# Altium footprint library Res.PcbLib: 10 footprints
Each footprint in its own frame and in the unit in brackets; x right, y up, seen from the top. Pads: shape width x height; smd on the part's side, far side on the other; paste and mask are expansions set on the pad; w line width, h text height; cw(c..) or ccw(c..) is an arc to the next point about the centre after c.
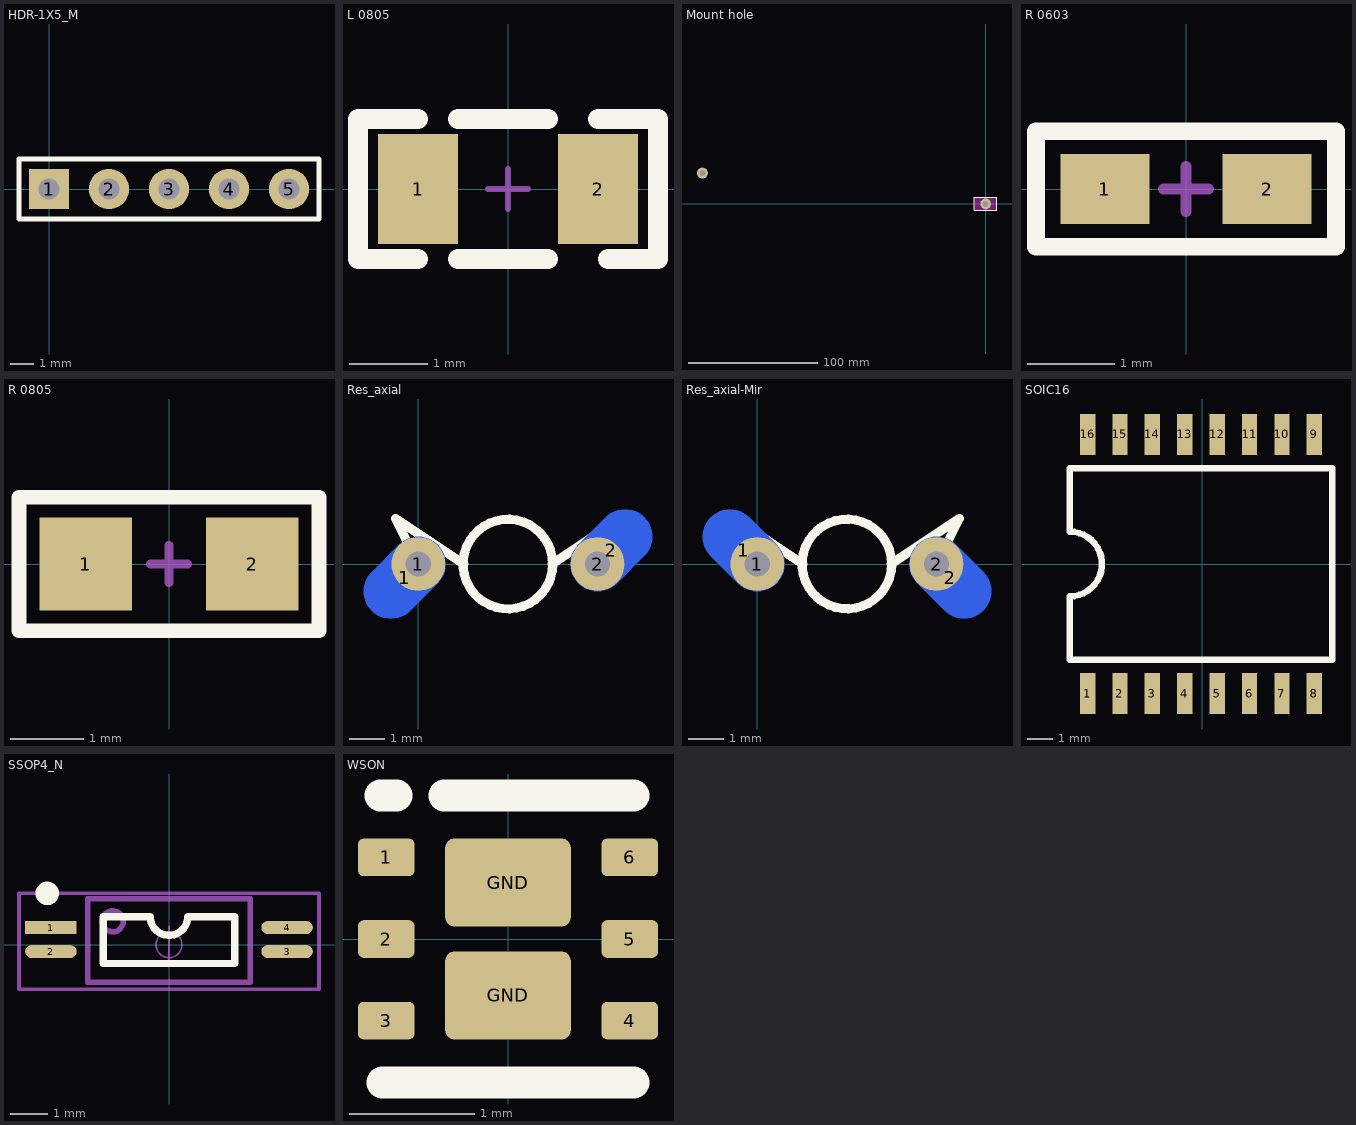
[diagram p0: the footprints below, top view; thin cyan lines are the x and y axes]

## HDR-1X5_M [mm] "排母，5脚"
pads (5):
  rect 1.7x1.7 hole 0.9: 1(0,0)
  round 1.7 hole 0.9: 2(2.54,0) 3(5.08,0) 4(7.62,0) 5(10.16,0)
Top Overlay:
  lines w0.2: -1.27,-1.27 -1.27,1.27 11.43,1.27 11.43,-1.27 -1.27,-1.27
3D body "HDR2.54-1P_M.STEP": height 8.5, standoff -3, extent 8.89,-1.27 11.43,1.27
3D body "HDR2.54-1P_M.STEP": height 8.5, standoff -3, extent 3.81,-1.27 6.35,1.27
3D body "HDR2.54-1P_M.STEP": height 8.5, standoff -3, extent 6.35,-1.27 8.89,1.27
3D body "HDR2.54-1P_M.STEP": height 8.5, standoff -3, extent -1.27,-1.27 1.27,1.27
3D body "HDR2.54-1P_M.STEP": height 8.5, standoff -3, extent 1.27,-1.27 3.81,1.27

## L 0805 [mil] "小功率贴片电感"
pads (2):
  rect 40x55 smd: 1(-45,0) 2(45,0)
Top Overlay:
  lines w10: -45,-35 -75,-35 -75,35 -45,35 ; -25,-35 20,-35 ; -25,35 20,35 ; 45,35 75,35 75,-35 50,-35
Mechanical 15:
  lines w3: -10,0 10,0 ; 0,-10 0,10
3D body "0805.STEP": height 35.43, standoff -0.11, extent -39.37,-23.62 39.37,23.62

## Mount hole [mm]
pads (2):
  round 8.4 hole 4.6: ""(-219.583,23.876) ""(0,0)
Top Overlay:
  lines w0.254: -8.75,-5 8.75,-5 8.75,5 -8.75,5 -8.75,-5
Keep-Out Layer:
  rectangle: -8.75,-5 8.75,5

## R 0603 [mil] "1/10W贴片电阻"
pads (2):
  rect 40x31.5 smd: 1(-36.5,0) 2(36.5,0)
Top Overlay:
  lines w8: -67.5,-26 -67.5,26 67.5,26 67.5,-26 -67.5,-26
Mechanical 15:
  lines w5: -10,0 10,0 ; 0,-10 0,10
3D body "R 0603.STEP": height 15.79, standoff -0.13, extent -31.49,-15.74 31.5,15.75

## R 0805 [mil] "1/8W贴片电阻"
pads (2):
  rect 50x50 smd: 1(-45,0) 2(45,0)
Top Overlay:
  lines w8: -81,-36 81,-36 81,36 -81,36 -81,-36
Mechanical 15:
  lines w5: -10,0 10,0 ; 0,-10 0,10
3D body "R 0805.STEP": height 19.72, standoff -0.24, extent -39.37,-24.6 39.37,24.61

## Res_axial [mm]
height 8
pads (4):
  oval 1.524x2.6 smd far side rot 135: 1(-0.381,-0.381) 2(5.385,0.384)
  round 1.5 hole 0.7: 1(0,0) 2(5,0)
Top Overlay:
  circle w0.254: c2.5,0 r1.25
  lines w0.254: 0,0 -0.635,1.27 1.27,0 ; 3.73,0 5.635,1.27 5,0

## Res_axial-Mir [mm]
height 8
pads (4):
  oval 1.524x2.6 smd far side rot 45: 1(-0.381,0.381) 2(5.385,-0.381)
  round 1.5 hole 0.7: 1(0,0) 2(5,0)
Top Overlay:
  circle w0.254: c2.5,0 r1.25
  lines w0.254: 0,0 -0.635,1.27 1.27,0 ; 3.73,0 5.635,1.27 5,0

## SOIC16 [mm]
pads (16):
  rect 0.6x1.6 smd: 1(-4.501,-5.08) 2(-3.231,-5.08) 3(-1.961,-5.08) 4(-0.691,-5.08) 5(0.579,-5.08) 6(1.849,-5.08) 7(3.119,-5.08) 8(4.389,-5.08) 9(4.389,5.08) 10(3.119,5.08) 11(1.849,5.08) 12(0.579,5.08) 13(-0.691,5.08) 14(-1.961,5.08) 15(-3.231,5.08) 16(-4.501,5.08)
Top Overlay:
  lines w0.254: -5.206,-3.75 5.094,-3.75 5.094,3.75 -5.206,3.75 -5.206,1.27 cw(c-5.207,0) -5.208,-1.27 -5.206,-3.75

## SSOP4_N [mm] "3*6.4*1.2mm（长宽高）"
pads (4):
  rect 1.4x0.35 smd: 1(-3.2,0.467)
  oval 1.4x0.35 smd: 2(-3.2,-0.183) 3(3.2,-0.183) 4(3.2,0.467)
Top Overlay:
  circle w0.381: c-3.3,1.392 r0.127
  lines w0.2: -1.778,-0.508 -1.778,0.762 -0.508,0.762 ccw(c0,0.762) 0.508,0.762 1.778,0.762 1.778,-0.508 -1.778,-0.508
Mechanical 13:
  circle w0.15: c-1.524,0.635 r0.284
  lines w0.15: -2.2,-1.016 -2.2,1.242 2.2,1.242 2.2,-1.016 -2.2,-1.016
Mechanical 15:
  circle w0.05: c0,0 r0.35
  lines w0.05: -0.5,-0.508 0.5,-0.508 ; 0,-0.5 0,0.5
  lines w0.1: -4.064,-1.206 4.064,-1.206 4.064,1.397 -4.064,1.397 -4.064,-1.206
3D body: height 0.25, standoff 0, extent -3.202,-1.016 3.202,1.242

## WSON [mm]
pads (8):
  rrect30% 0.45x0.3 smd: 1(-0.97,0.65) 2(-0.97,0) 3(-0.97,-0.65) 4(0.97,-0.65) 5(0.97,0) 6(0.97,0.65)
  rrect20% 1x0.7 smd: GND(0,-0.45) GND(0,0.45)
Top Overlay:
  lines w0.254: -1.016,1.143 -0.889,1.143 ; -1,-1.143 1,-1.143 ; -0.508,1.143 1,1.143